# EAGLE library part SW_DPDT_PN (library wheat)
Switch, DPDT alt action PB C&K PN series
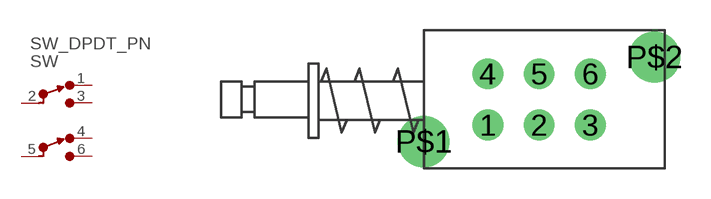
[diagram p118: symbol with the pads of SW_DPDT_PN; footprint SW_DPDT_PN]

Designator prefix SW

## SW_DPDT_PN  [SW_DPDT_PN]
1  NC1  pas
2  C1  pas
3  NO1  pas
4  NC2  pas
5  C2  pas
6  NO2  pas

## Footprint SW_DPDT_PN (pad centres in mm)
Swicth, DPDT alt action PB C&K PN-series
drill 1.016 pad 1.499: 1 8.89,-1.27; 2 11.43,-1.27; 3 13.97,-1.27; 4 8.89,1.27; 5 11.43,1.27; 6 13.97,1.27
drill 1.499 pad 2.54: P$1 5.715,-2.095; P$2 17.145,2.095